# EAGLE library part ATSAMD21G18A-MU (library 
ATSAMD21G18A-MUQFN48_7X7MC_MCH-L
EMA_Molly
_sequential)
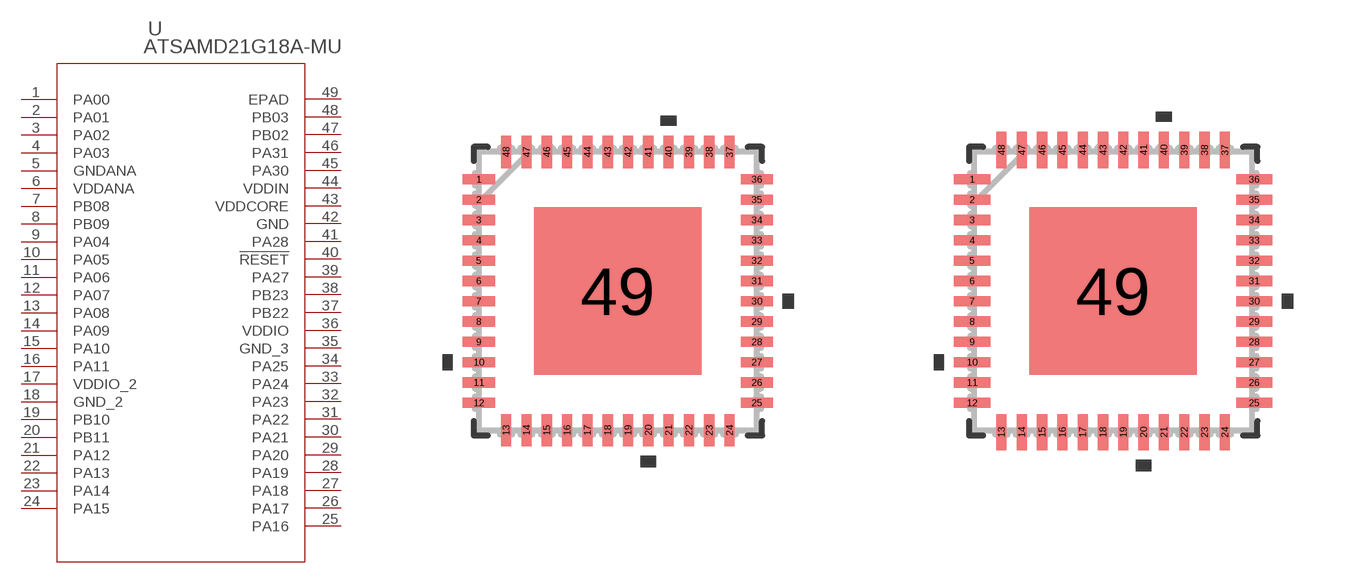
[diagram p0: symbol with the pads of QFN48_7X7MC_MCH; footprints QFN48_7X7MC_MCH, QFN48_7X7MC_MCH-M]

Designator prefix U

## ATSAMD21G18A-MU (BUILT_BY: EMA_Molly; COPYRIGHT: Copyright (C) 2018 Accelerated Designs. All rights reserved; MANUFACTURER_PART_NUMBER: ATSAMD21G18A-MU; SOURCELIBRARY: Microchip_2019-08-23_25; VENDOR: Microchip)  [QFN48_7X7MC_MCH]
1  PA00
2  PA01
3  PA02
4  PA03
5  GNDANA  pas
6  VDDANA  pwr
7  PB08
8  PB09
9  PA04
10  PA05
11  PA06
12  PA07
13  PA08
14  PA09
15  PA10
16  PA11
17  VDDIO_2  pwr
18  GND_2  pas
19  PB10
20  PB11
21  PA12
22  PA13
23  PA14
24  PA15
25  PA16
26  PA17
27  PA18
28  PA19
29  PA20
30  PA21
31  PA22
32  PA23
33  PA24
34  PA25
35  GND_3  pas
36  VDDIO  pwr
37  PB22
38  PB23
39  PA27
40  !RESET  pas
41  PA28
42  GND  pas
43  VDDCORE  pwr
44  VDDIN  pwr
45  PA30
46  PA31
47  PB02
48  PB03
49  EPAD  pas

## ATSAMD21G18A-MUQFN48_7X7MC_MCH-M (BUILT_BY: EMA_Molly; COPYRIGHT: Copyright (C) 2018 Accelerated Designs. All rights reserved; MANUFACTURER_PART_NUMBER: ATSAMD21G18A-MU; SOURCELIBRARY: Microchip_2019-08-23_25; VENDOR: Microchip)  [QFN48_7X7MC_MCH-M]
Pads as for QFN48_7X7MC_MCH

## ATSAMD21G18A-MUQFN48_7X7MC_MCH-L (BUILT_BY: EMA_Molly; COPYRIGHT: Copyright (C) 2018 Accelerated Designs. All rights reserved; MANUFACTURER_PART_NUMBER: ATSAMD21G18A-MU; SOURCELIBRARY: Microchip_2019-08-23_25; VENDOR: Microchip)  [QFN48_7X7MC_MCH-L]
Pads as for QFN48_7X7MC_MCH

## Footprint QFN48_7X7MC_MCH (pad centres in mm)
smd 0.808 x 0.255: 1 -3.477,2.794; 2 -3.477,2.286; 3 -3.477,1.778; 4 -3.477,1.27; 5 -3.477,0.762; 6 -3.477,0.254; 7 -3.477,-0.254; 8 -3.477,-0.762; 9 -3.477,-1.27; 10 -3.477,-1.778; 11 -3.477,-2.286; 12 -3.477,-2.794; 25 3.477,-2.794; 26 3.477,-2.286; 27 3.477,-1.778; 28 3.477,-1.27; 29 3.477,-0.762; 30 3.477,-0.254; 31 3.477,0.254; 32 3.477,0.762; 33 3.477,1.27; 34 3.477,1.778; 35 3.477,2.286; 36 3.477,2.794
smd 0.255 x 0.808: 13 -2.794,-3.477; 14 -2.286,-3.477; 15 -1.778,-3.477; 16 -1.27,-3.477; 17 -0.762,-3.477; 18 -0.254,-3.477; 19 0.254,-3.477; 20 0.762,-3.477; 21 1.27,-3.477; 22 1.778,-3.477; 23 2.286,-3.477; 24 2.794,-3.477; 37 2.794,3.477; 38 2.286,3.477; 39 1.778,3.477; 40 1.27,3.477; 41 0.762,3.477; 42 0.254,3.477; 43 -0.254,3.477; 44 -0.762,3.477; 45 -1.27,3.477; 46 -1.778,3.477; 47 -2.286,3.477; 48 -2.794,3.477
smd 4.191 x 4.191: 49 0,0

## Footprint QFN48_7X7MC_MCH-M (pad centres in mm)
smd 0.908 x 0.255: 1 -3.527,2.794; 2 -3.527,2.286; 3 -3.527,1.778; 4 -3.527,1.27; 5 -3.527,0.762; 6 -3.527,0.254; 7 -3.527,-0.254; 8 -3.527,-0.762; 9 -3.527,-1.27; 10 -3.527,-1.778; 11 -3.527,-2.286; 12 -3.527,-2.794; 25 3.527,-2.794; 26 3.527,-2.286; 27 3.527,-1.778; 28 3.527,-1.27; 29 3.527,-0.762; 30 3.527,-0.254; 31 3.527,0.254; 32 3.527,0.762; 33 3.527,1.27; 34 3.527,1.778; 35 3.527,2.286; 36 3.527,2.794
smd 0.255 x 0.908: 13 -2.794,-3.527; 14 -2.286,-3.527; 15 -1.778,-3.527; 16 -1.27,-3.527; 17 -0.762,-3.527; 18 -0.254,-3.527; 19 0.254,-3.527; 20 0.762,-3.527; 21 1.27,-3.527; 22 1.778,-3.527; 23 2.286,-3.527; 24 2.794,-3.527; 37 2.794,3.527; 38 2.286,3.527; 39 1.778,3.527; 40 1.27,3.527; 41 0.762,3.527; 42 0.254,3.527; 43 -0.254,3.527; 44 -0.762,3.527; 45 -1.27,3.527; 46 -1.778,3.527; 47 -2.286,3.527; 48 -2.794,3.527
smd 4.191 x 4.191: 49 0,0

## Footprint QFN48_7X7MC_MCH-L (pad centres in mm)
smd 0.708 x 0.255: 1 -3.427,2.794; 2 -3.427,2.286; 3 -3.427,1.778; 4 -3.427,1.27; 5 -3.427,0.762; 6 -3.427,0.254; 7 -3.427,-0.254; 8 -3.427,-0.762; 9 -3.427,-1.27; 10 -3.427,-1.778; 11 -3.427,-2.286; 12 -3.427,-2.794; 25 3.427,-2.794; 26 3.427,-2.286; 27 3.427,-1.778; 28 3.427,-1.27; 29 3.427,-0.762; 30 3.427,-0.254; 31 3.427,0.254; 32 3.427,0.762; 33 3.427,1.27; 34 3.427,1.778; 35 3.427,2.286; 36 3.427,2.794
smd 0.255 x 0.708: 13 -2.794,-3.427; 14 -2.286,-3.427; 15 -1.778,-3.427; 16 -1.27,-3.427; 17 -0.762,-3.427; 18 -0.254,-3.427; 19 0.254,-3.427; 20 0.762,-3.427; 21 1.27,-3.427; 22 1.778,-3.427; 23 2.286,-3.427; 24 2.794,-3.427; 37 2.794,3.427; 38 2.286,3.427; 39 1.778,3.427; 40 1.27,3.427; 41 0.762,3.427; 42 0.254,3.427; 43 -0.254,3.427; 44 -0.762,3.427; 45 -1.27,3.427; 46 -1.778,3.427; 47 -2.286,3.427; 48 -2.794,3.427
smd 4.191 x 4.191: 49 0,0